# Altium integrated library STM32.IntLib: 1 symbol
Pins are listed as number, name and electrical type; pins without a type are passive.

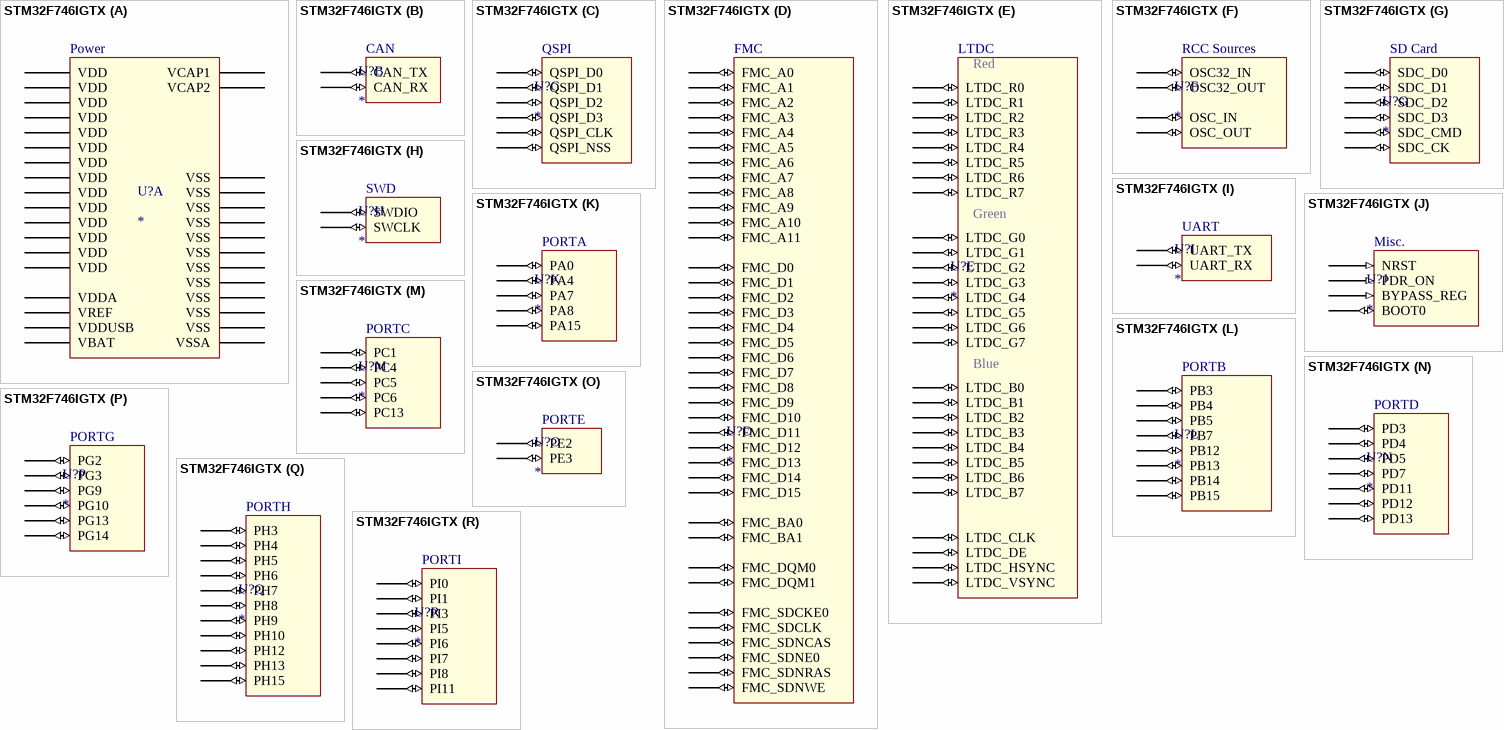
[diagram p0: symbol STM32F746IGTX]

## STM32F746IGTX
designator U?
footprint LQFP176(24x24) (LQFP176(24x24), STM32, 0.50mm pitch)
part A pins: 6 VBAT (power), 14 VSS (power), 15 VDD (power), 22 VSS (power), 23 VDD (power), 36 VDD (power), 37 VSSA (power), 38 VREF (power), 39 VDDA (power), 49 VDD (power), 61 VSS (power), 62 VDD (power), 71 VSS (power), 72 VDD (power), 81 VCAP1 (power), 82 VDD (power), 90 VSS (power), 91 VDD (power), 102 VSS (power), 103 VDD (power), 113 VSS (power), 114 VDDUSB (power), 125 VCAP2 (power), 126 VSS (power), 127 VDD (power), 135 VSS (power), 136 VDD (power), 148 VSS (power), 149 VDD (power), 158 VSS (power), 159 VDD (power), 172 VDD (power)
part B pins: 122 CAN_RX (io), 123 CAN_TX (io)
part C pins: 24 QSPI_D3 (io), 25 QSPI_D2 (io), 26 QSPI_D0 (io), 27 QSPI_D1 (io), 58 QSPI_CLK (io), 164 QSPI_NSS (io)
part D pins: 16 FMC_A0 (io), 17 FMC_A1 (io), 18 FMC_A2 (io), 19 FMC_A3 (io), 20 FMC_A4 (io), 21 FMC_A5 (io), 32 FMC_SDNWE (io), 34 FMC_SDNE0 (io), 35 FMC_SDCKE0 (io), 59 FMC_SDNRAS (io), 60 FMC_A6 (io), 63 FMC_A7 (io), 64 FMC_A8 (io), 65 FMC_A9 (io), 66 FMC_A10 (io), 67 FMC_A11 (io), 68 FMC_D4 (io), 69 FMC_D5 (io), 70 FMC_D6 (io), 73 FMC_D7 (io), 74 FMC_D8 (io), 75 FMC_D9 (io), 76 FMC_D10 (io), 77 FMC_D11 (io), 78 FMC_D12 (io), 96 FMC_D13 (io), 97 FMC_D14 (io), 98 FMC_D15 (io), 104 FMC_D0 (io), 105 FMC_D1 (io), 108 FMC_BA0 (io), 109 FMC_BA1 (io), 112 FMC_SDCLK (io), 142 FMC_D2 (io), 143 FMC_D3 (io), 160 FMC_SDNCAS (io), 169 FMC_DQM0 (io), 170 FMC_DQM1 (io)
part E pins: 3 LTDC_B0 (io), 4 LTDC_G0 (io), 5 LTDC_G1 (io), 11 LTDC_VSYNC (io), 12 LTDC_HSYNC (io), 28 LTDC_DE (io), 41 LTDC_R2 (io), 42 LTDC_R1 (io), 43 LTDC_R0 (io), 47 LTDC_B5 (io), 51 LTDC_R4 (io), 52 LTDC_G2 (io), 56 LTDC_R3 (io), 57 LTDC_R6 (io), 79 LTDC_G4 (io), 80 LTDC_G5 (io), 88 LTDC_R5 (io), 110 LTDC_R7 (io), 111 LTDC_CLK (io), 116 LTDC_G6 (io), 129 LTDC_G3 (io), 133 LTDC_G7 (io), 150 LTDC_B2 (io), 154 LTDC_B3 (io), 155 LTDC_B1 (io), 167 LTDC_B6 (io), 168 LTDC_B7 (io), 173 LTDC_B4 (io)
part F pins: 9 OSC32_IN (io), 10 OSC32_OUT (io), 29 OSC_IN (io), 30 OSC_OUT (io)
part G pins: 117 SDC_D0 (io), 118 SDC_D1 (io), 139 SDC_D2 (io), 140 SDC_D3 (io), 141 SDC_CK (io), 144 SDC_CMD (io)
part H pins: 124 SWDIO (io), 137 SWCLK (io)
part I pins: 120 UART_TX (io), 121 UART_RX (io)
part J pins: 31 NRST (in), 48 BYPASS_REG (in), 166 BOOT0 (io), 171 PDR_ON (in)
part K pins: 40 PA0 (io), 50 PA4 (io), 53 PA7 (io), 119 PA8 (io), 138 PA15 (io)
part L pins: 92 PB12 (io), 93 PB13 (io), 94 PB14 (io), 95 PB15 (io), 161 PB3 (io), 162 PB4 (io), 163 PB5 (io), 165 PB7 (io)
part M pins: 8 PC13 (io), 33 PC1 (io), 54 PC4 (io), 55 PC5 (io), 115 PC6 (io)
part N pins: 99 PD11 (io), 100 PD12 (io), 101 PD13 (io), 145 PD3 (io), 146 PD4 (io), 147 PD5 (io), 151 PD7 (io)
part O pins: 1 PE2 (io), 2 PE3 (io)
part P pins: 106 PG2 (io), 107 PG3 (io), 152 PG9 (io), 153 PG10 (io), 156 PG13 (io), 157 PG14 (io)
part Q pins: 44 PH3 (io), 45 PH4 (io), 46 PH5 (io), 83 PH6 (io), 84 PH7 (io), 85 PH8 (io), 86 PH9 (io), 87 PH10 (io), 89 PH12 (io), 128 PH13 (io), 130 PH15 (io)
part R pins: 7 PI8 (io), 13 PI11 (io), 131 PI0 (io), 132 PI1 (io), 134 PI3 (io), 174 PI5 (io), 175 PI6 (io), 176 PI7 (io)
part A text: Power
part B text: CAN
part C text: QSPI
part D text: FMC
part E text: LTDC; Red; Green; Blue
part F text: RCC Sources
part G text: SD Card
part H text: SWD
part I text: UART
part J text: Misc.
part K text: PORTA
part L text: PORTB
part M text: PORTC
part N text: PORTD
part O text: PORTE
part P text: PORTG
part Q text: PORTH
part R text: PORTI